# Altium integrated library PIC18F14K50-I_SO.IntLib: 1 symbol
Pins are listed as number, name and electrical type; pins without a type are passive.

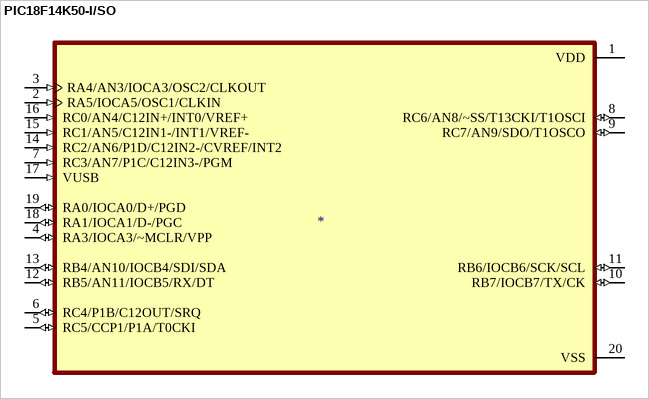
[diagram p0: symbol PIC18F14K50-I/SO]

## PIC18F14K50-I/SO
designator ?
PIC PICÂ® XLPâ„¢ 18K Microcontroller IC 8-Bit 48MHz 16KB _8K x 16_ FLASH 20-SOIC; MP: PIC18F14K50-I/SO; MF: Microchip; Price: None; SnapEDA_Link: https://www.snapeda.com/parts/PIC18F14K50-I/SO/Microchip/view-part/39073/?ref=snap; Availability: Unavailable; Value: *; Package: SOIC-20 Microchip
footprint SOIC127P1032X265-20N
pins: 1 VDD (power), 2 RA5/IOCA5/OSC1/CLKIN (in), 3 RA4/AN3/IOCA3/OSC2/CLKOUT (in), 4 RA3/IOCA3/~MCLR/VPP (io), 5 RC5/CCP1/P1A/T0CKI (io), 6 RC4/P1B/C12OUT/SRQ (io), 7 RC3/AN7/P1C/C12IN3-/PGM (in), 8 RC6/AN8/~SS/T13CKI/T1OSCI (io), 9 RC7/AN9/SDO/T1OSCO (io), 10 RB7/IOCB7/TX/CK (io), 11 RB6/IOCB6/SCK/SCL (io), 12 RB5/AN11/IOCB5/RX/DT (io), 13 RB4/AN10/IOCB4/SDI/SDA (io), 14 RC2/AN6/P1D/C12IN2-/CVREF/INT2 (in), 15 RC1/AN5/C12IN1-/INT1/VREF- (in), 16 RC0/AN4/C12IN+/INT0/VREF+ (in), 17 VUSB (in), 18 RA1/IOCA1/D-/PGC (io), 19 RA0/IOCA0/D+/PGD (io), 20 VSS (power)